# Altium footprint library ICs.PcbLib: 34 footprints (part 2 of 3)
Each footprint in its own frame and in the unit in brackets; x right, y up, seen from the top. Pads: shape width x height; smd on the part's side, far side on the other; paste and mask are expansions set on the pad; w line width, h text height; cw(c..) or ccw(c..) is an arc to the next point about the centre after c.
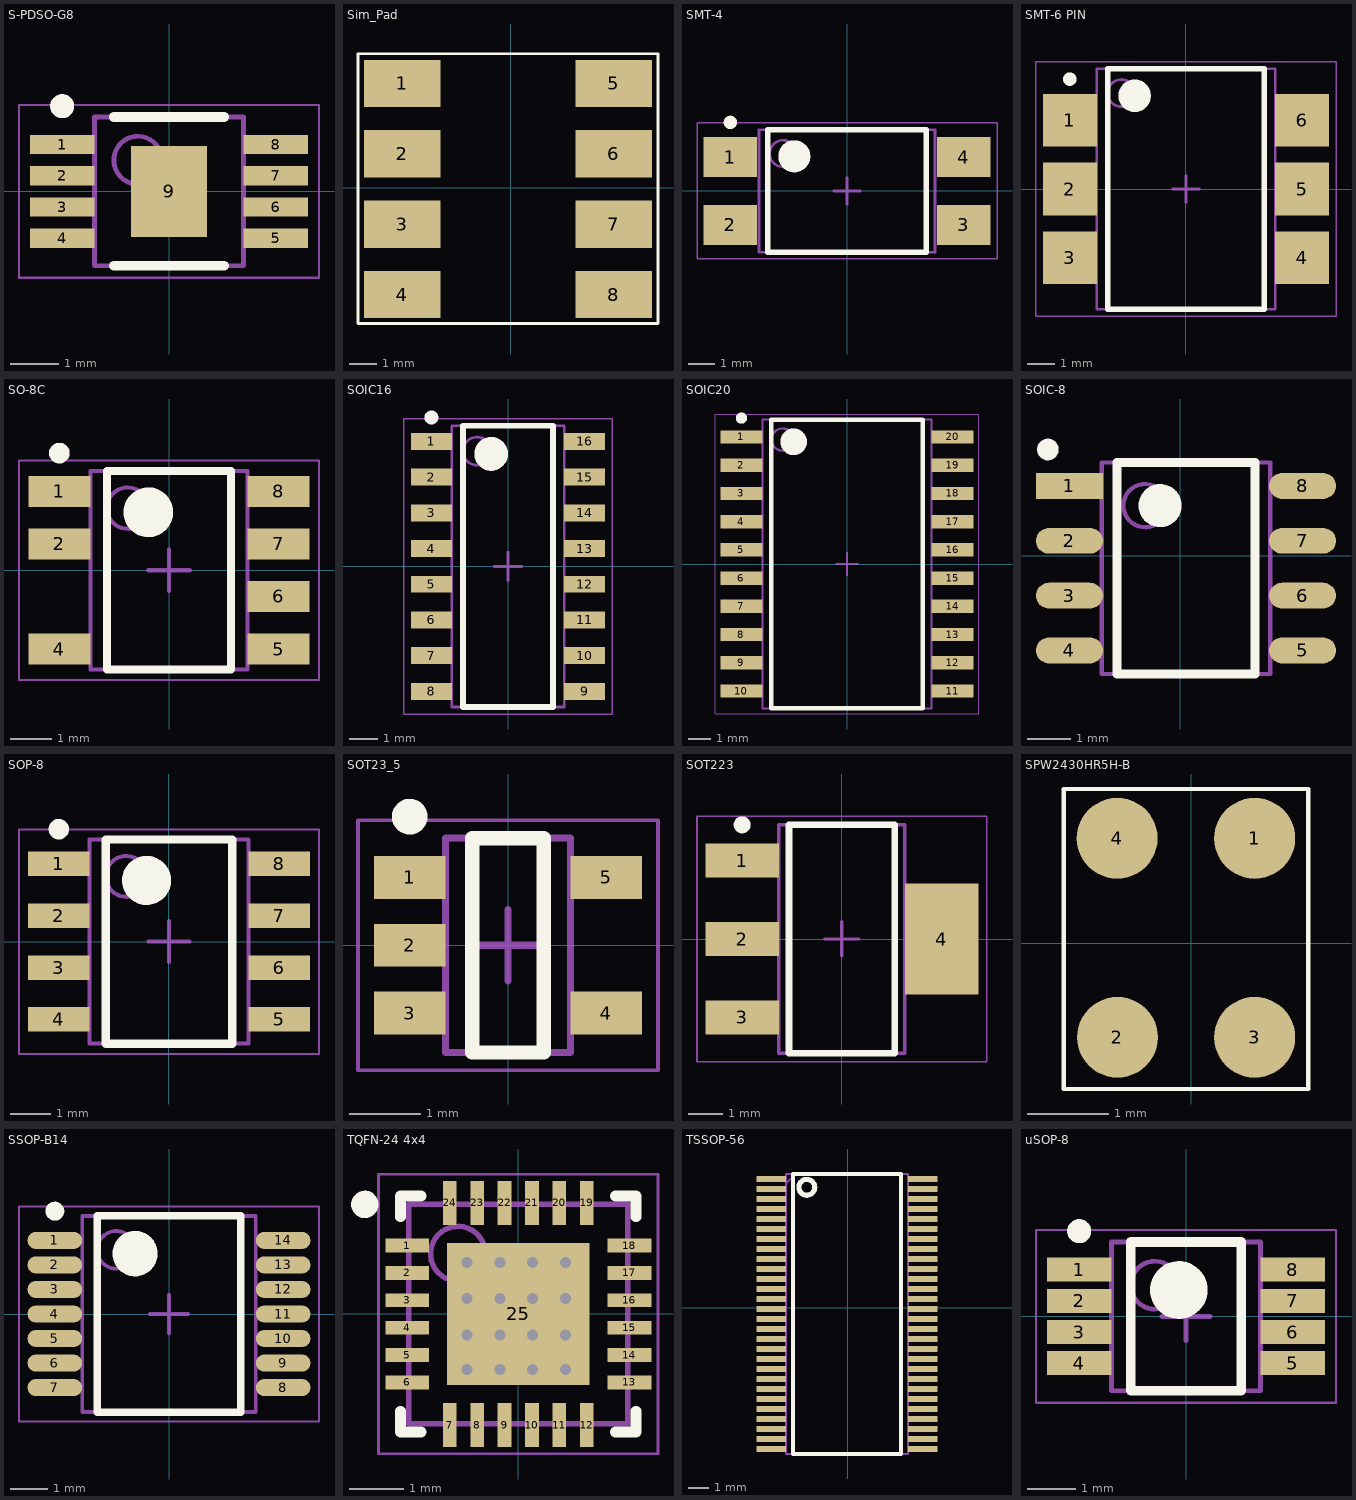
[diagram p1: the footprints below, top view; thin cyan lines are the x and y axes]

## S-PDSO-G8 [mm]
height 2.65
pads (9):
  rect 1.35x0.4 smd: 1(-2.225,0.975) 2(-2.225,0.325) 3(-2.225,-0.325) 4(-2.225,-0.975) 5(2.225,-0.975) 6(2.225,-0.325) 7(2.225,0.325) 8(2.225,0.975)
  rect 1.58x1.89 smd: 9(0,0)
Top Overlay:
  circle w0.25: c-2.225,1.775 r0.125
  lines w0.2: -1.15,-1.55 1.15,-1.55 ; -1.15,1.55 1.15,1.55
Mechanical 13:
  circle w0.1: c-0.65,0.65 r0.5
  lines w0.1: -1.55,-1.55 1.55,-1.55 1.55,1.55 -1.55,1.55 -1.55,-1.55
Mechanical 15:
  lines w0.05: -3.125,-1.8 3.125,-1.8 3.125,1.8 -3.125,1.8 -3.125,-1.8
  lines w0.1: -0.5,0 0.5,0 ; 0,-0.5 0,0.5
3D body "S-PDSO-G8.step": height 2.65, standoff 0, extent -2.438,-1.55 2.438,1.55

## Sim_Pad [mm]
pads (8):
  rect 2.75x1.7 smd: 1(-3.912,3.759) 2(-3.912,1.219) 3(-3.912,-1.321) 4(-3.912,-3.861) 5(3.708,3.759) 6(3.708,1.219) 7(3.708,-1.321) 8(3.708,-3.861)
Top Overlay:
  lines w0.1: -5.512,-4.902 5.309,-4.902 5.309,4.826 -5.512,4.826 -5.512,-4.902

## SMT-4 [mm]
height 2.65
pads (4):
  rect 2x1.5 smd: 1(-4.375,1.27) 2(-4.375,-1.27) 3(4.375,-1.27) 4(4.375,1.27)
Top Overlay:
  circle w0.25: c-4.375,2.57 r0.125
  circle w0.6: c-1.975,1.3 r0.3
  lines w0.2: -2.975,-2.3 -2.975,2.3 2.975,2.3 2.975,-2.3 -2.975,-2.3
Mechanical 13:
  circle w0.1: c-2.4,1.4 r0.5
  lines w0.1: -3.3,-2.3 -3.3,2.3 3.3,2.3 3.3,-2.3 -3.3,-2.3
Mechanical 15:
  lines w0.05: -5.625,-2.55 -5.625,2.55 5.625,2.55 5.625,-2.55 -5.625,-2.55
  lines w0.1: -0.5,0 0.5,0 ; 0,-0.5 0,0.5
3D body "SMT-4.step": height 2.65, standoff 0, extent -4.975,-2.3 4.975,2.3

## SMT-6 PIN [mm] "SOP, 6-Leads, Body 8.50x6.35mm, Pitch 2.54mm, IPC Medium Density"
height 2.65
pads (6):
  rect 2x1.95 smd: 1(-4.3,2.54) 2(-4.3,0) 3(-4.3,-2.54) 4(4.3,-2.54) 5(4.3,0) 6(4.3,2.54)
Top Overlay:
  circle w0.25: c-4.3,4.065 r0.125
  circle w0.6: c-1.9,3.45 r0.3
  lines w0.2: -2.9,-4.45 -2.9,4.45 2.9,4.45 2.9,-4.45 -2.9,-4.45
Mechanical 13:
  circle w0.1: c-2.4,3.55 r0.5
  lines w0.1: -3.3,-4.45 -3.3,4.45 3.3,4.45 3.3,-4.45 -3.3,-4.45
Mechanical 15:
  lines w0.05: -5.55,-4.7 -5.55,4.7 5.55,4.7 5.55,-4.7 -5.55,-4.7
  lines w0.1: -0.5,0 0.5,0 ; 0,-0.5 0,0.5
3D body "SMT-6 PIN.step": height 2.75, standoff 0.1, extent -4.575,-4.45 4.575,4.45

## SO-8C [mm]
height 2
pads (7):
  rect 1.5x0.75 smd: 1(-2.65,1.905) 2(-2.65,0.635) 4(-2.65,-1.905) 5(2.65,-1.905) 6(2.65,-0.635) 7(2.65,0.635) 8(2.65,1.905)
Top Overlay:
  circle w0.25: c-2.65,2.83 r0.125
  circle w0.6: c-0.5,1.4 r0.3
  lines w0.2: -1.5,-2.4 -1.5,2.4 1.5,2.4 1.5,-2.4 -1.5,-2.4
Mechanical 13:
  circle w0.1: c-1,1.5 r0.5
  lines w0.1: -1.9,-2.4 -1.9,2.4 1.9,2.4 1.9,-2.4 -1.9,-2.4
Mechanical 15:
  lines w0.05: -3.625,-2.65 -3.625,2.65 3.625,2.65 3.625,-2.65 -3.625,-2.65
  lines w0.1: -0.5,0 0.5,0 ; 0,-0.5 0,0.5
3D body "SO-8C.step": height 2.65, standoff 0, extent -2.975,-2.4 2.975,2.4

## SOIC16 [mm] "9.90 mm × 3.91 mm"
height 1.75
pads (16):
  rect 1.45x0.6 smd: 1(-2.725,4.445) 2(-2.725,3.175) 3(-2.725,1.905) 4(-2.725,0.635) 5(-2.725,-0.635) 6(-2.725,-1.905) 7(-2.725,-3.175) 8(-2.725,-4.445) 9(2.725,-4.445) 10(2.725,-3.175) 11(2.725,-1.905) 12(2.725,-0.635) 13(2.725,0.635) 14(2.725,1.905) 15(2.725,3.175) 16(2.725,4.445)
Top Overlay:
  circle w0.25: c-2.725,5.295 r0.125
  circle w0.6: c-0.6,4 r0.3
  lines w0.2: -1.6,-5 -1.6,5 1.6,5 1.6,-5 -1.6,-5
Mechanical 13:
  circle w0.1: c-1.1,4.1 r0.5
  lines w0.1: -2,-5 -2,5 2,5 2,-5 -2,-5
Mechanical 15:
  lines w0.05: -3.7,-5.25 -3.7,5.25 3.7,5.25 3.7,-5.25 -3.7,-5.25
  lines w0.1: -0.5,0 0.5,0 ; 0,-0.5 0,0.5
3D body "SOIC16.step": height 1.75, standoff 0, extent -3,-5 3,5

## SOIC20 [mm]
height 2.65
pads (20):
  rect 1.9x0.6 smd: 1(-4.75,5.715) 2(-4.75,4.445) 3(-4.75,3.175) 4(-4.75,1.905) 5(-4.75,0.635) 6(-4.75,-0.635) 7(-4.75,-1.905) 8(-4.75,-3.175) 9(-4.75,-4.445) 10(-4.75,-5.715) 11(4.75,-5.715) 12(4.75,-4.445) 13(4.75,-3.175) 14(4.75,-1.905) 15(4.75,-0.635) 16(4.75,0.635) 17(4.75,1.905) 18(4.75,3.175) 19(4.75,4.445) 20(4.75,5.715)
Top Overlay:
  circle w0.6: c-2.4,5.5 r0.3
  circle w0.25: c-4.75,6.565 r0.125
  lines w0.2: -3.4,-6.5 3.4,-6.5 3.4,6.5 -3.4,6.5 -3.4,-6.5
Mechanical 13:
  circle w0.1: c-2.9,5.6 r0.5
  lines w0.1: -3.8,-6.5 3.8,-6.5 3.8,6.5 -3.8,6.5 -3.8,-6.5
Mechanical 15:
  lines w0.05: -5.925,-6.75 5.925,-6.75 5.925,6.75 -5.925,6.75 -5.925,-6.75
  lines w0.1: -0.5,0 0.5,0 ; 0,-0.5 0,0.5
3D body "SOIC20.step": height 2.65, standoff 0, extent -5.162,-6.5 5.162,6.5

## SOIC-8 [mm]
pads (8):
  rect 1.55x0.6 smd: 1(-2.564,1.621)
  oval 1.55x0.6 smd: 2(-2.564,0.351) 3(-2.564,-0.919) 4(-2.564,-2.189) 5(2.836,-2.189) 6(2.836,-0.919) 7(2.836,0.351) 8(2.836,1.621)
Top Overlay:
  circle w0.25: c-3.064,2.466 r0.125
  circle w0.5: c-0.464,1.166 r0.25
  lines w0.2: -1.464,-2.734 -1.464,2.166 1.736,2.166 1.736,-2.734 -1.464,-2.734
Mechanical 1:
  circle w0.1: c-0.814,1.166 r0.5
  lines w0.1: -1.814,-2.734 -1.814,2.166 2.086,2.166 2.086,-2.734 -1.814,-2.734

## SOP-8 [mm]
height 2.65
pads (8):
  rect 1.5x0.6 smd: 1(-2.7,1.905) 2(-2.7,0.635) 3(-2.7,-0.635) 4(-2.7,-1.905) 5(2.7,-1.905) 6(2.7,-0.635) 7(2.7,0.635) 8(2.7,1.905)
Top Overlay:
  circle w0.6: c-0.55,1.5 r0.3
  circle w0.25: c-2.7,2.755 r0.125
  lines w0.2: -1.55,-2.5 1.55,-2.5 1.55,2.5 -1.55,2.5 -1.55,-2.5
Mechanical 13:
  circle w0.1: c-1.05,1.6 r0.5
  lines w0.1: -1.95,-2.5 1.95,-2.5 1.95,2.5 -1.95,2.5 -1.95,-2.5
Mechanical 15:
  lines w0.05: -3.675,-2.75 3.675,-2.75 3.675,2.75 -3.675,2.75 -3.675,-2.75
  lines w0.1: -0.5,0 0.5,0 ; 0,-0.5 0,0.5
3D body "SOP-8.step": height 2.65, standoff 0, extent -2.975,-2.5 2.975,2.5

## SOT23_5 [mm]
height 1.45
pads (5):
  rect 1x0.6 smd: 1(-1.375,0.95) 2(-1.375,0) 3(-1.375,-0.95) 4(1.375,-0.95) 5(1.375,0.95)
Top Overlay:
  circle w0.25: c-1.375,1.8 r0.125
  lines w0.2: -0.5,-1.5 0.5,-1.5 0.5,1.5 -0.5,1.5 -0.5,-1.5
Mechanical 13:
  lines w0.1: -0.875,-1.5 -0.875,1.5 0.875,1.5 0.875,-1.5 -0.875,-1.5
Mechanical 15:
  lines w0.05: -2.1,-1.75 -2.1,1.75 2.1,1.75 2.1,-1.75 -2.1,-1.75
  lines w0.1: -0.5,0 0.5,0 ; 0,-0.5 0,0.5
3D body "SOT23.step": height 1.45, standoff 0, extent -1.5,-1.5 1.5,1.5

## SOT223 [mm] "SOT223, 4-Leads, Body 6.50x7.00mm (avg), Pitch 2.30mm, IPC Medium Density"
height 1.8
pads (4):
  rect 2.15x1 smd: 1(-2.925,2.3) 2(-2.925,0) 3(-2.925,-2.3)
  rect 2.15x3.25 smd: 4(2.925,0)
Top Overlay:
  circle w0.25: c-2.925,3.35 r0.125
  lines w0.2: -1.55,-3.35 -1.55,3.35 1.55,3.35 1.55,-3.35 -1.55,-3.35
Mechanical 13:
  lines w0.1: -1.85,-3.35 -1.85,3.35 1.85,3.35 1.85,-3.35 -1.85,-3.35
Mechanical 15:
  lines w0.05: -4.25,-3.6 -4.25,3.6 4.25,3.6 4.25,-3.6 -4.25,-3.6
  lines w0.1: -0.5,0 0.5,0 ; 0,-0.5 0,0.5
3D body "SOT223.step": height 1.8, standoff 0, extent -3.5,-3.35 3.5,3.35

## SPW2430HR5H-B [mm]
pads (4):
  round 1 smd: 1(0.786,1.295) 2(-0.911,-1.165) 3(0.786,-1.165) 4(-0.914,1.295)
Top Overlay:
  lines w0.05: -1.575,-1.803 1.448,-1.803 1.448,1.905 -1.575,1.905 -1.575,-1.803

## SSOP-B14 [mm] "SSOP, 14-Leads, Body 5.10x4.50mm, Pitch 0.65mm, IPC Medium Density"
height 1.15
pads (14):
  oval 1.45x0.45 smd: 1(-3.025,1.95) 2(-3.025,1.3) 3(-3.025,0.65) 4(-3.025,0) 5(-3.025,-0.65) 6(-3.025,-1.3) 7(-3.025,-1.95) 8(3.025,-1.95) 9(3.025,-1.3) 10(3.025,-0.65) 11(3.025,0) 12(3.025,0.65) 13(3.025,1.3) 14(3.025,1.95)
Top Overlay:
  circle w0.6: c-0.9,1.6 r0.3
  circle w0.25: c-3.025,2.725 r0.125
  lines w0.2: -1.9,-2.6 1.9,-2.6 1.9,2.6 -1.9,2.6 -1.9,-2.6
Mechanical 13:
  circle w0.1: c-1.4,1.7 r0.5
  lines w0.1: -2.3,-2.6 2.3,-2.6 2.3,2.6 -2.3,2.6 -2.3,-2.6
Mechanical 15:
  lines w0.05: -3.975,-2.85 3.975,-2.85 3.975,2.85 -3.975,2.85 -3.975,-2.85
  lines w0.1: -0.5,0 0.5,0 ; 0,-0.5 0,0.5
3D body "SSOP-B14.step": height 1.15, standoff 0, extent -3.275,-2.6 3.275,2.6

## TQFN-24 4x4 [mm]
height 0.8
pads (25):
  rect 0.8x0.25 smd: 1(-2.027,1.25) 2(-2.027,0.75) 3(-2.027,0.25) 4(-2.027,-0.25) 5(-2.027,-0.75) 6(-2.027,-1.25) 13(2.027,-1.25) 14(2.027,-0.75) 15(2.027,-0.25) 16(2.027,0.25) 17(2.027,0.75) 18(2.027,1.25)
  rect 0.25x0.8 smd: 7(-1.25,-2.027) 8(-0.75,-2.027) 9(-0.25,-2.027) 10(0.25,-2.027) 11(0.75,-2.027) 12(1.25,-2.027) 19(1.25,2.027) 20(0.75,2.027) 21(0.25,2.027) 22(-0.25,2.027) 23(-0.75,2.027) 24(-1.25,2.027)
  rect 2.6x2.6 smd: 25(0,0)
via -0.936,-1.016 diameter 0.4 hole 0.2
via -0.336,-1.016 diameter 0.4 hole 0.2
via 0.264,-1.016 diameter 0.4 hole 0.2
via 0.864,-1.016 diameter 0.4 hole 0.2
via -0.936,-0.381 diameter 0.4 hole 0.2
via -0.336,-0.381 diameter 0.4 hole 0.2
via 0.264,-0.381 diameter 0.4 hole 0.2
via 0.864,-0.381 diameter 0.4 hole 0.2
via -0.936,0.279 diameter 0.4 hole 0.2
via -0.336,0.279 diameter 0.4 hole 0.2
via 0.264,0.279 diameter 0.4 hole 0.2
via 0.864,0.279 diameter 0.4 hole 0.2
via 0.864,0.94 diameter 0.4 hole 0.2
via 0.264,0.94 diameter 0.4 hole 0.2
via -0.336,0.94 diameter 0.4 hole 0.2
via -0.936,0.94 diameter 0.4 hole 0.2
Top Overlay:
  circle w0.25: c-2.8,2 r0.125
  lines w0.2: -2.15,-1.775 -2.15,-2.15 -1.775,-2.15 ; -2.15,1.775 -2.15,2.15 -1.775,2.15 ; 1.775,-2.15 2.15,-2.15 2.15,-1.775 ; 1.775,2.15 2.15,2.15 2.15,1.775
Mechanical 13:
  circle w0.1: c-1.1,1.1 r0.5
  lines w0.1: -2,-2 2,-2 2,2 -2,2 -2,-2
Mechanical 15:
  lines w0.05: -2.55,-2.55 2.55,-2.55 2.55,2.55 -2.55,2.55 -2.55,-2.55
  lines w0.1: -0.5,0 0.5,0 ; 0,-0.5 0,0.5
3D body "TQFN-24 4x4.step": height 0.8, standoff 0, extent -2.01,-2.01 2.01,2.01

## TSSOP-56 [mm]
pads (56):
  rect 1.475x0.3 smd: 1(-3.813,6.445) 2(-3.813,5.945) 3(-3.813,5.445) 4(-3.813,4.945) 5(-3.813,4.445) 6(-3.813,3.945) 7(-3.813,3.445) 8(-3.813,2.945) 9(-3.813,2.445) 10(-3.813,1.945) 11(-3.813,1.445) 12(-3.813,0.945) 13(-3.813,0.445) 14(-3.813,-0.055) 15(-3.813,-0.555) 16(-3.813,-1.055) 17(-3.813,-1.555) 18(-3.813,-2.055) 19(-3.813,-2.555) 20(-3.813,-3.055) 21(-3.813,-3.555) 22(-3.813,-4.055) 23(-3.813,-4.555) 24(-3.813,-5.055) 25(-3.813,-5.555) 26(-3.813,-6.055) 27(-3.813,-6.555) 28(-3.813,-7.055) 29(3.763,-7.055) 30(3.763,-6.555) 31(3.763,-6.055) 32(3.763,-5.555) 33(3.763,-5.055) 34(3.763,-4.555) 35(3.763,-4.055) 36(3.763,-3.555) 37(3.763,-3.055) 38(3.763,-2.555) 39(3.763,-2.055) 40(3.763,-1.555) 41(3.763,-1.055) 42(3.763,-0.555) 43(3.763,-0.055) 44(3.763,0.445) 45(3.763,0.945) 46(3.763,1.445) 47(3.763,1.945) 48(3.763,2.445) 49(3.763,2.945) 50(3.763,3.445) 51(3.763,3.945) 52(3.763,4.445) 53(3.763,4.945) 54(3.763,5.445) 55(3.763,5.945) 56(3.763,6.445)
Top Overlay:
  circle w0.254: c-2.032,6.02 r0.397
  lines w0.2: -2.725,-7.305 2.675,-7.305 2.675,6.695 -2.725,6.695 -2.725,-7.305
Mechanical 15:
  lines w0.1: -3.075,6.195 -2.575,6.695 ; -3.075,-7.305 3.025,-7.305 3.025,6.695 -3.075,6.695 -3.075,-7.305
3D body "DS90CF384AMTD_NOPB.stp": height 1.2, standoff 0, extent -4.05,-7.315 4.05,6.685

## uSOP-8 [mm]
height 1
pads (8):
  rect 1.35x0.5 smd: 1(-2.225,0.975) 2(-2.225,0.325) 3(-2.225,-0.325) 4(-2.225,-0.975) 5(2.225,-0.975) 6(2.225,-0.325) 7(2.225,0.325) 8(2.225,0.975)
Top Overlay:
  circle w0.25: c-2.225,1.775 r0.125
  circle w0.6: c-0.15,0.55 r0.3
  lines w0.2: -1.15,-1.55 -1.15,1.55 1.15,1.55 1.15,-1.55 -1.15,-1.55
Mechanical 13:
  circle w0.1: c-0.65,0.65 r0.5
  lines w0.1: -1.55,-1.55 -1.55,1.55 1.55,1.55 1.55,-1.55 -1.55,-1.55
Mechanical 15:
  lines w0.05: -3.125,-1.8 -3.125,1.8 3.125,1.8 3.125,-1.8 -3.125,-1.8
  lines w0.1: -0.5,0 0.5,0 ; 0,-0.5 0,0.5
3D body "uSOP-8.step": height 1, standoff 0, extent -2.438,-1.55 2.438,1.55